# Altium integrated library IntLib-IC.IntLib: 11 symbols
Pins are listed as number, name and electrical type; pins without a type are passive.

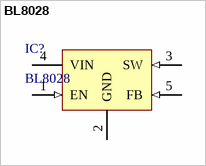
[diagram p0: symbol BL8028]

## BL8028
designator IC?
DC-DC 芯片
footprint SOT23-5 (SOT23, 5-Leads, Body 2.90x2.80mm, Pitch 0.95mm, IPC Medium Density)
pins: 1 EN (in), 2 GND (power), 3 SW (in), 4 VIN (power), 5 FB (in)


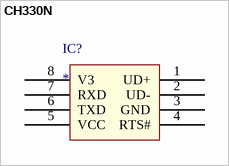
[diagram p1: symbol CH330N]

## CH330N
designator IC?
USB转UART; ComponentLink1Description: LCSC; ComponentLink1URL: https://item.szlcsc.com/110217.html
footprint SOP-8 (SOP, 8-Leads, Body 4.90x3.90mm, Pitch 1.27mm, IPC Medium Density)
pins: 1 UD+ (power), 2 UD- (power), 3 GND (power), 4 RTS# (power), 5 VCC (power), 6 TXD (power), 7 RXD (power), 8 V3 (power)


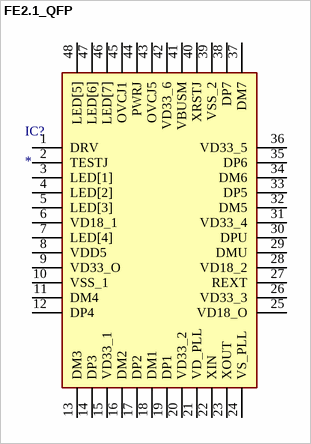
[diagram p2: symbol FE2.1_QFP]

## FE2.1_QFP
designator IC?
USB2.0 Hub 芯片; Manufacturer_Name: Terminus Technology; Manufacturer_Part_Number: FE2.1_QFP; Datasheet Link: http://www.35ic.net/ui/docs/assets/img/1458708200035.PDF; Height: 1.6mm
footprint LQFP48-48_7x7 (TSQFP, 48-Leads, Body 7.00x7.00mm, Pitch 0.50mm, IPC Medium Density)
pins: 1 DRV, 2 TESTJ, 3 LED[1], 4 LED[2], 5 LED[3], 6 VD18_1, 7 LED[4], 8 VDD5, 9 VD33_O, 10 VSS_1, 11 DM4, 12 DP4, 13 DM3, 14 DP3, 15 VD33_1, 16 DM2, 17 DP2, 18 DM1, 19 DP1, 20 VD33_2, 21 VD_PLL, 22 XIN, 23 XOUT, 24 VS_PLL, 25 VD18_O, 26 VD33_3, 27 REXT, 28 VD18_2, 29 DMU, 30 DPU, 31 VD33_4, 32 DM5, 33 DP5, 34 DM6, 35 DP6, 36 VD33_5, 37 DM7, 38 DP7, 39 VSS_2, 40 XRSTJ, 41 VBUSM, 42 VD33_6, 43 OVCJ5, 44 PWRJ, 45 OVCJ1, 46 LED[7], 47 LED[6], 48 LED[5]


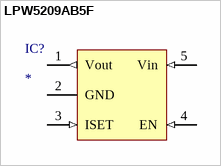
[diagram p3: symbol LPW5209AB5F]

## LPW5209AB5F
designator IC?
功率开关; ComponentLink1Description: LCSC; ComponentLink1URL: https://buyertrade.taobao.com/trade/pay_success.htm?biz_order_id=1920700765494856405&out_trade_no=T200P1920700765494856405&dealing=T
footprint SOT23-5 (SOT23, 5-Leads, Body 2.90x2.80mm, Pitch 0.95mm, IPC Medium Density)
pins: 1 Vout (out), 2 GND (power), 3 ISET (in), 4 EN (in), 5 Vin (in)


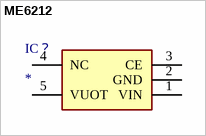
[diagram p4: symbol ME6212]

## ME6212
designator IC？
LDO 线性稳压芯片; ComponentLink1Description: LCSC; ComponentLink1URL: https://item.szlcsc.com/82383.html
footprint SOT-23-5 (SOT95P285X140-5N)
pins: 1 VIN, 2 GND, 3 CE, 4 NC, 5 VUOT


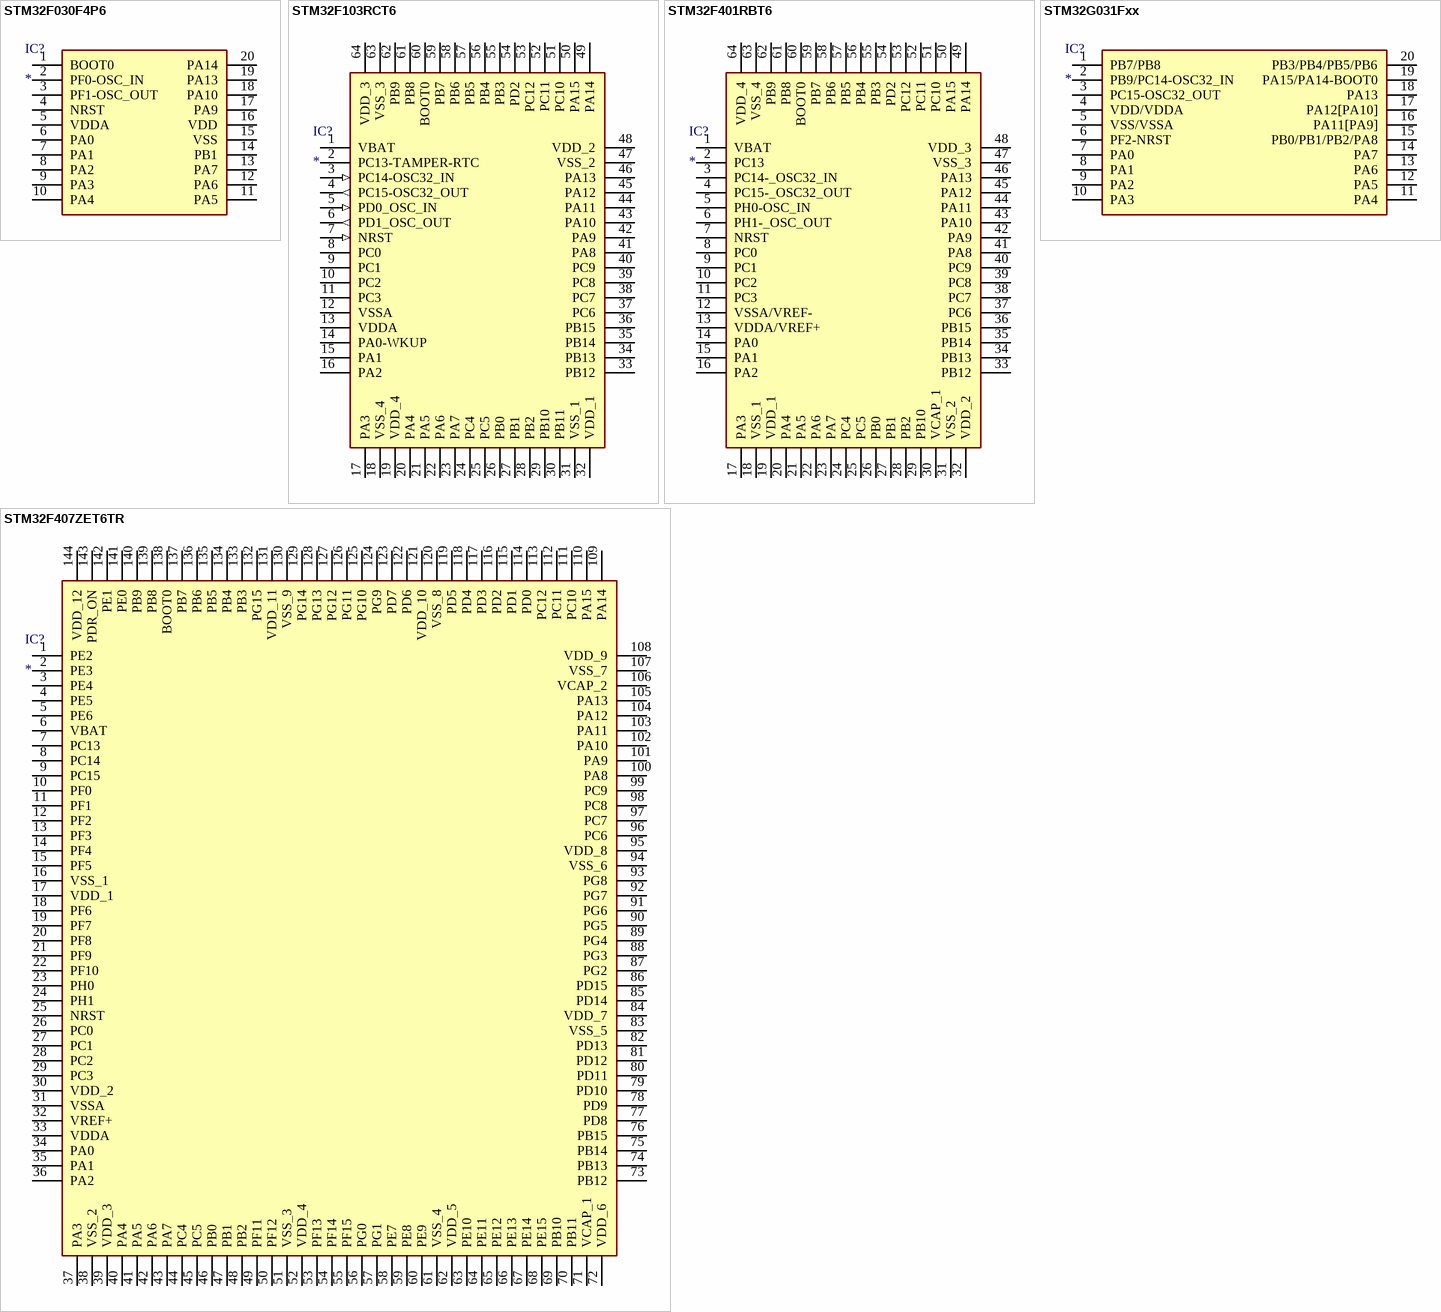
[diagram p5: symbols STM32F030F4P6 to STM32G031Fxx]

## STM32F030F4P6
designator IC?
Integrated Circuit; Manufacturer_Name: STMicroelectronics; Manufacturer_Part_Number: STM32F030F4P6; Datasheet Link: http://www.st.com/web/en/resource/technical/document/datasheet/DM00088500.pdf; Height: 1.2mm; Arrow Part Number: STM32F030F4P6; Arrow Price/Stock: https://www.arrow.com/en/products/stm32f030f4p6/stmicroelectronics; Mouser Part Number: 511-STM32F030F4P6; Mouser Price/Stock: https://www.mouser.co.uk/ProductDetail/STMicroelectronics/STM32F030F4P6?qs=eyrSuY1LhL02tVhJ92aI6g%3D%3D
footprint SOP65P640X120-20N
pins: 1 BOOT0, 2 PF0-OSC_IN, 3 PF1-OSC_OUT, 4 NRST, 5 VDDA, 6 PA0, 7 PA1, 8 PA2, 9 PA3, 10 PA4, 11 PA5, 12 PA6, 13 PA7, 14 PB1, 15 VSS, 16 VDD, 17 PA9, 18 PA10, 19 PA13, 20 PA14

## STM32F103RCT6
designator IC?
Integrated Circuit; Manufacturer_Name: STMicroelectronics; Manufacturer_Part_Number: STM32F103RCT6; Allied_Number: 70391008; Datasheet Link: http://www.st.com/st-web-ui/static/active/en/resource/technical/document/datasheet/CD00191185.pdf; Height: 1.6mm; Mouser Part Number: 511-STM32F103RCT6; Mouser Price/Stock: https://www.mouser.com/Search/Refine.aspx?Keyword=511-STM32F103RCT6; RS Part Number: 7141079P; RS Price/Stock: http://uk.rs-online.com/web/p/products/7141079P; Allied Price/Stock: http://www.alliedelec.com/stmicroelectronics-stm32f103rct6/70391008/
footprint QFP50P1200X1200X160-64N
pins: 1 VBAT, 2 PC13-TAMPER-RTC, 3 PC14-OSC32_IN (in), 4 PC15-OSC32_OUT (out), 5 PD0_OSC_IN (in), 6 PD1_OSC_OUT (out), 7 NRST (in), 8 PC0, 9 PC1, 10 PC2, 11 PC3, 12 VSSA (power), 13 VDDA (power), 14 PA0-WKUP, 15 PA1, 16 PA2, 17 PA3, 18 VSS_4 (power), 19 VDD_4 (power), 20 PA4, 21 PA5, 22 PA6, 23 PA7, 24 PC4, 25 PC5, 26 PB0, 27 PB1, 28 PB2, 29 PB10, 30 PB11, 31 VSS_1 (power), 32 VDD_1 (power), 33 PB12, 34 PB13, 35 PB14, 36 PB15, 37 PC6, 38 PC7, 39 PC8, 40 PC9, 41 PA8, 42 PA9, 43 PA10, 44 PA11, 45 PA12, 46 PA13, 47 VSS_2 (power), 48 VDD_2 (power), 49 PA14, 50 PA15, 51 PC10, 52 PC11, 53 PC12, 54 PD2, 55 PB3, 56 PB4, 57 PB5, 58 PB6, 59 PB7, 60 BOOT0, 61 PB8, 62 PB9, 63 VSS_3 (power), 64 VDD_3 (power)

## STM32F401RBT6
designator IC?
Integrated Circuit; Manufacturer_Name: STMicroelectronics; Manufacturer_Part_Number: STM32F401RBT6; Datasheet Link: http://www.st.com/web/en/resource/technical/document/datasheet/DM00086815.pdf; Height: 1.6mm; Mouser Part Number: 511-STM32F401RBT6; Mouser Price/Stock: https://www.mouser.com/Search/Refine.aspx?Keyword=511-STM32F401RBT6; Arrow Part Number: STM32F401RBT6; Arrow Price/Stock: https://www.arrow.com/en/products/stm32f401rbt6/stmicroelectronics
footprint QFP50P1200X1200X160-64N
pins: 1 VBAT, 2 PC13, 3 PC14-_OSC32_IN, 4 PC15-_OSC32_OUT, 5 PH0-OSC_IN, 6 PH1-_OSC_OUT, 7 NRST, 8 PC0, 9 PC1, 10 PC2, 11 PC3, 12 VSSA/VREF-, 13 VDDA/VREF+, 14 PA0, 15 PA1, 16 PA2, 17 PA3, 18 VSS_1, 19 VDD_1, 20 PA4, 21 PA5, 22 PA6, 23 PA7, 24 PC4, 25 PC5, 26 PB0, 27 PB1, 28 PB2, 29 PB10, 30 VCAP_1, 31 VSS_2, 32 VDD_2, 33 PB12, 34 PB13, 35 PB14, 36 PB15, 37 PC6, 38 PC7, 39 PC8, 40 PC9, 41 PA8, 42 PA9, 43 PA10, 44 PA11, 45 PA12, 46 PA13, 47 VSS_3, 48 VDD_3, 49 PA14, 50 PA15, 51 PC10, 52 PC11, 53 PC12, 54 PD2, 55 PB3, 56 PB4, 57 PB5, 58 PB6, 59 PB7, 60 BOOT0, 61 PB8, 62 PB9, 63 VSS_4, 64 VDD_4

## STM32F407ZET6TR
designator IC?
Integrated Circuit; Manufacturer_Name: STMicroelectronics; Manufacturer_Part_Number: STM32F407ZET6TR; Datasheet Link: https://4donline.ihs.com/images/VipMasterIC/IC/SGST/SGSTS30931/SGSTS30931-1.pdf?hkey=EF798316E3902B6ED9A73243A3159BB0; Height: 1.6mm
footprint QFP50P2200X2200X160-144N
pins: 1 PE2, 2 PE3, 3 PE4, 4 PE5, 5 PE6, 6 VBAT, 7 PC13, 8 PC14, 9 PC15, 10 PF0, 11 PF1, 12 PF2, 13 PF3, 14 PF4, 15 PF5, 16 VSS_1, 17 VDD_1, 18 PF6, 19 PF7, 20 PF8, 21 PF9, 22 PF10, 23 PH0, 24 PH1, 25 NRST, 26 PC0, 27 PC1, 28 PC2, 29 PC3, 30 VDD_2, 31 VSSA, 32 VREF+, 33 VDDA, 34 PA0, 35 PA1, 36 PA2, 37 PA3, 38 VSS_2, 39 VDD_3, 40 PA4, 41 PA5, 42 PA6, 43 PA7, 44 PC4, 45 PC5, 46 PB0, 47 PB1, 48 PB2, 49 PF11, 50 PF12, 51 VSS_3, 52 VDD_4, 53 PF13, 54 PF14, 55 PF15, 56 PG0, 57 PG1, 58 PE7, 59 PE8, 60 PE9, 61 VSS_4, 62 VDD_5, 63 PE10, 64 PE11, 65 PE12, 66 PE13, 67 PE14, 68 PE15, 69 PB10, 70 PB11, 71 VCAP_1, 72 VDD_6, 73 PB12, 74 PB13, 75 PB14, 76 PB15, 77 PD8, 78 PD9, 79 PD10, 80 PD11, 81 PD12, 82 PD13, 83 VSS_5, 84 VDD_7, 85 PD14, 86 PD15, 87 PG2, 88 PG3, 89 PG4, 90 PG5, 91 PG6, 92 PG7, 93 PG8, 94 VSS_6, 95 VDD_8, 96 PC6, 97 PC7, 98 PC8, 99 PC9, 100 PA8, 101 PA9, 102 PA10, 103 PA11, 104 PA12, 105 PA13, 106 VCAP_2, 107 VSS_7, 108 VDD_9, 109 PA14, 110 PA15, 111 PC10, 112 PC11, 113 PC12, 114 PD0, 115 PD1, 116 PD2, 117 PD3, 118 PD4, 119 PD5, 120 VSS_8, 121 VDD_10, 122 PD6, 123 PD7, 124 PG9, 125 PG10, 126 PG11, 127 PG12, 128 PG13, 129 PG14, 130 VSS_9, 131 VDD_11, 132 PG15, 133 PB3, 134 PB4, 135 PB5, 136 PB6, 137 PB7, 138 BOOT0, 139 PB8, 140 PB9, 141 PE0, 142 PE1, 143 PDR_ON, 144 VDD_12

## STM32G031Fxx
designator IC?
MCU 32位 单片机; Manufacturer_Name: STMicroelectronics; Manufacturer_Part_Number: STM32G031F8P6; Datasheet Link: https://www.mouser.com/datasheet/2/389/en.DM00371828-1620887.pdf; Height: 1.2mm; Mouser Part Number: 511-STM32G031F8P6; Mouser Price/Stock: https://www.mouser.co.uk/ProductDetail/STMicroelectronics/STM32G031F8P6?qs=uwxL4vQweFPCanBqg1D5fQ%3D%3D; Arrow Part Number: STM32G031F8P6; Arrow Price/Stock: https://www.arrow.com/en/products/stm32g031f8p6/stmicroelectronics
footprint TSSOP-20 (TSOP, 20-Leads, Body 6.50x4.40mm, Pitch 0.65mm, IPC Medium Density)
pins: 1 PB7/PB8, 2 PB9/PC14-OSC32_IN, 3 PC15-OSC32_OUT, 4 VDD/VDDA, 5 VSS/VSSA, 6 PF2-NRST, 7 PA0, 8 PA1, 9 PA2, 10 PA3, 11 PA4, 12 PA5, 13 PA6, 14 PA7, 15 PB0/PB1/PB2/PA8, 16 PA11[PA9], 17 PA12[PA10], 18 PA13, 19 PA15/PA14-BOOT0, 20 PB3/PB4/PB5/PB6


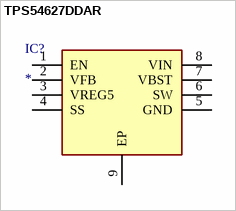
[diagram p6: symbol TPS54627DDAR]

## TPS54627DDAR
designator IC?
DC-DC 降压芯片; Manufacturer_Name: Texas Instruments; Manufacturer_Part_Number: TPS54627DDAR; Datasheet Link: http://www.ti.com/lit/gpn/tps54627; Height: 1.7mm; Arrow Part Number: TPS54627DDAR; Arrow Price/Stock: https://www.arrow.com/en/products/tps54627ddar/texas-instruments; Mouser Part Number: 595-TPS54627DDAR; Mouser Price/Stock: https://www.mouser.com/Search/Refine.aspx?Keyword=595-TPS54627DDAR
footprint SOIC-8-PowerPAD (SOIC, 8-Leads, Body 4.90x3.90mm, Pitch 1.27mm, Thermal Pad 3.10x2.40mm, IPC Medium Density)
pins: 1 EN, 2 VFB, 3 VREG5, 4 SS, 5 GND, 6 SW, 7 VBST, 8 VIN, 9 EP